# Altium schematic symbol library MIC37122YMT-TR.SchLib: 1 symbol
Pins are listed as number, name and electrical type; pins without a type are passive.

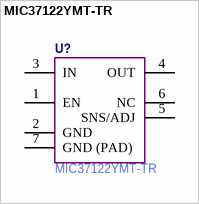
[diagram p0: symbol MIC37122YMT-TR]

## MIC37122YMT-TR
designator U?  Manufacturer Part Number: MIC37122YMT-TR  (hidden comment: *)
pins: 1 EN, 2 GND, 3 IN, 4 OUT, 5 SNS/ADJ, 6 NC, 7 GND (PAD)